# EAGLE library part 2626-3111/0020-0000 (library con-wago_2626)
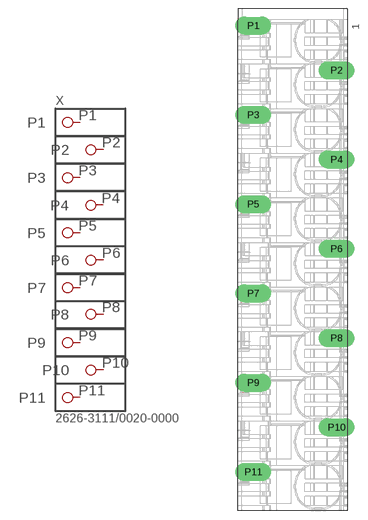
[diagram p12: symbol with the pads of P-2626-3111/0020-0000; footprint P-2626-3111/0020-0000]

Designator prefix X

## 2626-3111/0020-0000  [P-2626-3111/0020-0000]
P1  P1
P2  P2
P3  P3
P4  P4
P5  P5
P6  P6
P7  P7
P8  P8
P9  P9
P10  P10
P11  P11

## Footprint P-2626-3111/0020-0000 (pad centres in mm)
drill 2 pad 2.184 long: P1 -14,-1; P2 0,-8.5; P3 -14,-16; P4 0,-23.5; P5 -14,-31; P6 0,-38.5; P7 -14,-46; P8 0,-53.5; P9 -14,-61; P10 0,-68.5; P11 -14,-76